# Altium footprint library SpecialisedSensor.PcbLib: 7 footprints
Each footprint in its own frame and in the unit in brackets; x right, y up, seen from the top. Pads: shape width x height; smd on the part's side, far side on the other; paste and mask are expansions set on the pad; w line width, h text height; cw(c..) or ccw(c..) is an arc to the next point about the centre after c.
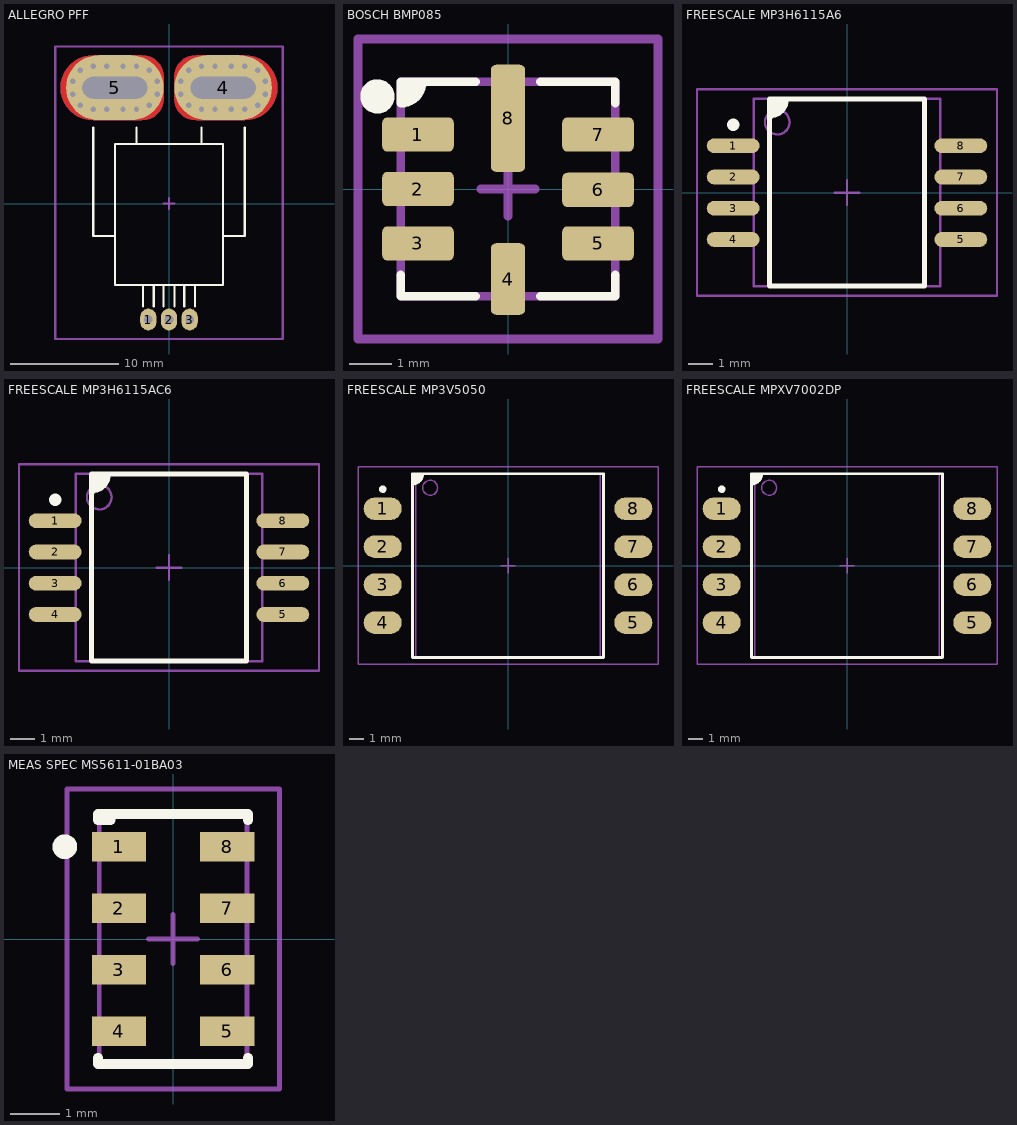
[diagram p0: the footprints below, top view; thin cyan lines are the x and y axes]

## ALLEGRO PFF [mm]
height 7
pads (5):
  oval 1.5x2 hole 0.8: 1(-1.91,-10.7) 2(0,-10.7) 3(1.91,-10.7)
  oval 9x6 hole 2 slot 6 at 0 deg: 4(5,10.7) 5(-5,10.7)
via 5.75,8.7 diameter 0.9 hole 0.5
via 4.25,8.7 diameter 0.9 hole 0.5
via 4.25,12.7 diameter 0.9 hole 0.5
via 7,12.7 diameter 0.9 hole 0.5
via 8.176,12.318 diameter 0.9 hole 0.5
via 8.902,11.318 diameter 0.9 hole 0.5
via 8.902,10.082 diameter 0.9 hole 0.5
via 8.176,9.082 diameter 0.9 hole 0.5
via 7,8.7 diameter 0.9 hole 0.5
via 3,8.7 diameter 0.9 hole 0.5
via 1.824,9.082 diameter 0.9 hole 0.5
via 1.098,10.082 diameter 0.9 hole 0.5
via 1.098,11.318 diameter 0.9 hole 0.5
via 1.824,12.318 diameter 0.9 hole 0.5
via 3,12.7 diameter 0.9 hole 0.5
via 5.75,12.7 diameter 0.9 hole 0.5
via -4.25,8.7 diameter 0.9 hole 0.5
via -5.75,8.7 diameter 0.9 hole 0.5
via -5.75,12.7 diameter 0.9 hole 0.5
via -3,12.7 diameter 0.9 hole 0.5
via -1.824,12.318 diameter 0.9 hole 0.5
via -1.098,11.318 diameter 0.9 hole 0.5
via -1.098,10.082 diameter 0.9 hole 0.5
via -1.824,9.082 diameter 0.9 hole 0.5
via -3,8.7 diameter 0.9 hole 0.5
via -7,8.7 diameter 0.9 hole 0.5
via -8.176,9.082 diameter 0.9 hole 0.5
via -8.902,10.082 diameter 0.9 hole 0.5
via -8.902,11.318 diameter 0.9 hole 0.5
via -8.176,12.318 diameter 0.9 hole 0.5
via -7,12.7 diameter 0.9 hole 0.5
via -4.25,12.7 diameter 0.9 hole 0.5
Top Layer:
  region: -7,13.709 -7.471,13.672 -7.93,13.562 -8.366,13.381 -8.769,13.135 -9.128,12.828 -9.435,12.469 -9.681,12.066 -9.862,11.63 -9.972,11.171 -10.009,10.7 -9.972,10.229 -9.862,9.77 -9.681,9.334 -9.435,8.931 -9.128,8.572 -8.769,8.265 -8.366,8.019 -7.93,7.838 -7.471,7.728 -7,7.691 -7,7.7 -2.5,7.69 -2.108,7.729 -1.731,7.843 -1.383,8.029 -1.079,8.279 -0.829,8.583 -0.643,8.931 -0.529,9.308 -0.49,9.7 -0.5,9.7 -0.49,11.7 -0.529,12.092 -0.643,12.469 -0.829,12.817 -1.079,13.121 -1.383,13.371 -1.731,13.557 -2.108,13.671 -2.5,13.71 -2.5,13.7
  region: 7,13.709 7.471,13.672 7.93,13.562 8.366,13.381 8.769,13.135 9.128,12.828 9.435,12.469 9.681,12.066 9.862,11.63 9.972,11.171 10.009,10.7 9.972,10.229 9.862,9.77 9.681,9.334 9.435,8.931 9.128,8.572 8.769,8.265 8.366,8.019 7.93,7.838 7.471,7.728 7,7.691 7,7.7 2.5,7.69 2.108,7.729 1.731,7.843 1.383,8.029 1.079,8.279 0.829,8.583 0.643,8.931 0.529,9.308 0.49,9.7 0.5,9.7 0.49,11.7 0.529,12.092 0.643,12.469 0.829,12.817 1.079,13.121 1.383,13.371 1.731,13.557 2.108,13.671 2.5,13.71 2.5,13.7
Bottom Layer:
  region: -7,13.709 -7.471,13.672 -7.93,13.562 -8.366,13.381 -8.769,13.135 -9.128,12.828 -9.435,12.469 -9.681,12.066 -9.862,11.63 -9.972,11.171 -10.009,10.7 -9.972,10.229 -9.862,9.77 -9.681,9.334 -9.435,8.931 -9.128,8.572 -8.769,8.265 -8.366,8.019 -7.93,7.838 -7.471,7.728 -7,7.691 -7,7.7 -2.5,7.69 -2.108,7.729 -1.731,7.843 -1.383,8.029 -1.079,8.279 -0.829,8.583 -0.643,8.931 -0.529,9.308 -0.49,9.7 -0.5,9.7 -0.49,11.7 -0.529,12.092 -0.643,12.469 -0.829,12.817 -1.079,13.121 -1.383,13.371 -1.731,13.557 -2.108,13.671 -2.5,13.71 -2.5,13.7
  region: 7,13.709 7.471,13.672 7.93,13.562 8.366,13.381 8.769,13.135 9.128,12.828 9.435,12.469 9.681,12.066 9.862,11.63 9.972,11.171 10.009,10.7 9.972,10.229 9.862,9.77 9.681,9.334 9.435,8.931 9.128,8.572 8.769,8.265 8.366,8.019 7.93,7.838 7.471,7.728 7,7.691 7,7.7 2.5,7.69 2.108,7.729 1.731,7.843 1.383,8.029 1.079,8.279 0.829,8.583 0.643,8.931 0.529,9.308 0.49,9.7 0.5,9.7 0.49,11.7 0.529,12.092 0.643,12.469 0.829,12.817 1.079,13.121 1.383,13.371 1.731,13.557 2.108,13.671 2.5,13.71 2.5,13.7
Top Overlay:
  lines w0.2: -7,7 -7,-3 -5,-3 ; -3,5.5 -3,7 ; -2.41,-9.5 -2.41,-7.5 ; -1.41,-9.5 -1.41,-7.5 ; -0.5,-9.5 -0.5,-7.5 ; 0.5,-9.5 0.5,-7.5 ; 1.41,-9.5 1.41,-7.5 ; 2.41,-9.5 2.41,-7.5 ; 3,5.5 3,7 ; 5,-3 7,-3 7,7 ; -5,-7.5 5,-7.5 5,5.5 -5,5.5 -5,-7.5
Mechanical 15:
  lines w0.2: -0.5,0 0.5,0 ; 0,-0.5 0,0.5 ; -10.5,-12.5 -10.5,14.5 10.5,14.5 10.5,-12.5 -10.5,-12.5
3D body: height 7, standoff -3.52, extent -7,-11.086 7,11.5

## BOSCH BMP085 [mm] "Bosch BMP085 digital pressure sensor"
height 1.2
pads (8):
  rrect30% 1.67x0.8 smd: 1(-2.1,1.27) 2(-2.1,0) 3(-2.1,-1.27) 5(2.1,-1.27) 6(2.1,-0.02) 7(2.1,1.27)
  rrect30% 0.8x1.67 smd: 4(0,-2.1)
  rrect30% 0.8x2.5 smd: 8(0,1.65)
Top Overlay:
  circle w0.4: c-3.048,2.159 r0.2
  region: -2.5,2.5 -2.032,2.5 -2.032,2.286 -2.286,2.032 -2.5,2.032
  lines w0.2: -2.5,-2 -2.5,-2.5 -0.75,-2.5 ; -2,2.5 cw(c-2.5,2.5) -2.5,2 -2.5,2.5 -0.75,2.5 ; 0.75,-2.5 2.5,-2.5 2.5,-2 ; 0.75,2.5 2.5,2.5 2.5,2
Mechanical 1:
  lines w0.2: -2.5,-2.5 -2.5,2.5 2.5,2.5 2.5,-2.5 -2.5,-2.5
Mechanical 15:
  lines w0.2: -0.635,0 0.635,0 ; 0,-0.635 0,0.635 ; -3.5,-3.5 3.5,-3.5 3.5,3.5 -3.5,3.5 -3.5,-3.5
3D body: height 1.2, standoff 0, extent -2.5,-2.5 2.5,2.5

## FREESCALE MP3H6115A6 [mm] "SOIC, 8-Leads, Body 7.6x7.6mm (max), Pitch 1.27mm, IPC Medium Density"
height 4.191
pads (8):
  oval 2.15x0.6 smd: 1(-4.625,1.905) 2(-4.625,0.635) 3(-4.625,-0.635) 4(-4.625,-1.905) 5(4.625,-1.905) 6(4.625,-0.635) 7(4.625,0.635) 8(4.625,1.905)
Top Overlay:
  circle w0.25: c-4.625,2.755 r0.125
  region: -2.465,3.796 -3.146,3.796 -3.15,3.8 -3.15,3.111 -2.973,3.111 -2.465,3.619
  lines w0.2: -3.15,3.111 ccw(c-3.15,3.796) -2.465,3.796 ; -3.15,-3.8 3.15,-3.8 3.15,3.8 -3.15,3.8 -3.15,-3.8
Mechanical 13:
  circle w0.1: c-2.835,2.86 r0.5
  lines w0.1: -3.785,-3.81 3.785,-3.81 3.785,3.81 -3.785,3.81 -3.785,-3.81
Mechanical 15:
  lines w0.1: -0.5,0 0.5,0 ; 0,-0.5 0,0.5 ; -6.096,-4.191 6.096,-4.191 6.096,4.191 -6.096,4.191 -6.096,-4.191
3D body: height 4.04, standoff -0.05, extent -5.234,-3.689 5.233,3.689

## FREESCALE MP3H6115AC6 [mm] "SOIC, 8-Leads, Body 7.6x7.6mm (max), Pitch 1.27mm, IPC Medium Density"
height 4.191
pads (8):
  oval 2.15x0.6 smd: 1(-4.625,1.905) 2(-4.625,0.635) 3(-4.625,-0.635) 4(-4.625,-1.905) 5(4.625,-1.905) 6(4.625,-0.635) 7(4.625,0.635) 8(4.625,1.905)
Top Overlay:
  circle w0.25: c-4.625,2.755 r0.125
  region: -2.465,3.796 -3.146,3.796 -3.15,3.8 -3.15,3.111 -2.973,3.111 -2.465,3.619
  lines w0.2: -3.15,3.111 ccw(c-3.15,3.796) -2.465,3.796 ; -3.15,-3.8 -3.15,3.8 3.15,3.8 3.15,-3.8 -3.15,-3.8
Mechanical 13:
  circle w0.1: c-2.835,2.86 r0.5
  lines w0.1: -3.785,-3.81 -3.785,3.81 3.785,3.81 3.785,-3.81 -3.785,-3.81
Mechanical 15:
  lines w0.1: -0.5,0 0.5,0 ; 0,-0.5 0,0.5 ; -6.096,-4.191 -6.096,4.191 6.096,4.191 6.096,-4.191 -6.096,-4.191
3D body: height 9.65, standoff 0, extent -5.229,-4.255 5.229,4.254

## FREESCALE MP3V5050 [mm] "SOP, 8-Leads, Body 12.3x12.3mm (max), Pitch 2.54mm, IPC Medium Density"
height 9.906
pads (8):
  oval 2.54x1.52 smd: 1(-8.38,3.81) 2(-8.38,1.27) 3(-8.38,-1.27) 4(-8.38,-3.81) 5(8.38,-3.81) 6(8.38,-1.27) 7(8.38,1.27) 8(8.38,3.81)
Top Overlay:
  circle w0.25: c-8.38,5.12 r0.125
  region: -5.715,6.146 -6.396,6.146 -6.4,6.15 -6.4,5.461 -6.223,5.461 -5.715,5.969
  lines w0.2: -6.4,5.461 ccw(c-6.4,6.146) -5.715,6.146 ; -6.4,-6.15 -6.4,6.15 6.4,6.15 6.4,-6.15 -6.4,-6.15
Mechanical 13:
  circle w0.1: c-5.21,5.21 r0.5
  lines w0.1: -6.16,-6.16 -6.16,6.16 6.16,6.16 6.16,-6.16 -6.16,-6.16
Mechanical 15:
  lines w0.1: -0.5,0 0.5,0 ; 0,-0.5 0,0.5 ; -10.033,-6.604 -10.033,6.604 10.033,6.604 10.033,-6.604 -10.033,-6.604
3D body: height 9.93, standoff -0.23, extent -8.781,-6.033 8.78,12.382

## FREESCALE MPXV7002DP [mm] "SOP, 8-Leads, Body 12.3x12.3mm (max), Pitch 2.54mm, IPC Medium Density"
height 9.906
pads (8):
  oval 2.54x1.52 smd: 1(-8.38,3.81) 2(-8.38,1.27) 3(-8.38,-1.27) 4(-8.38,-3.81) 5(8.38,-3.81) 6(8.38,-1.27) 7(8.38,1.27) 8(8.38,3.81)
Top Overlay:
  circle w0.25: c-8.38,5.12 r0.125
  region: -5.715,6.146 -6.396,6.146 -6.4,6.15 -6.4,5.461 -6.223,5.461 -5.715,5.969
  lines w0.2: -6.4,5.461 ccw(c-6.4,6.146) -5.715,6.146 ; -6.4,-6.15 6.4,-6.15 6.4,6.15 -6.4,6.15 -6.4,-6.15
Mechanical 13:
  circle w0.1: c-5.21,5.21 r0.5
  lines w0.1: -6.16,-6.16 6.16,-6.16 6.16,6.16 -6.16,6.16 -6.16,-6.16
Mechanical 15:
  lines w0.1: -0.5,0 0.5,0 ; 0,-0.5 0,0.5 ; -10.033,-6.604 10.033,-6.604 10.033,6.604 -10.033,6.604 -10.033,-6.604
3D body: height 9.91, standoff -0.25, extent -8.763,-6.033 8.763,12.128

## MEAS SPEC MS5611-01BA03 [mm] "LCC, 8-Pins, Body 3.0x5.1mm (max), Pitch 1.25mm, IPC Medium Density"
height 1
pads (8):
  rect 1.1x0.6 smd: 1(-1.1,1.875) 2(-1.1,0.625) 3(-1.1,-0.625) 4(-1.1,-1.875) 5(1.1,-1.875) 6(1.1,-0.625) 7(1.1,0.625) 8(1.1,1.875)
Top Overlay:
  circle w0.25: c-2.2,1.875 r0.125
  lines w0.2: -1.524,-2.413 -1.524,-2.54 1.524,-2.54 1.524,-2.413 ; -1.27,2.54 -1.27,2.413 -1.524,2.413 -1.524,2.54 1.524,2.54 1.524,2.413
Mechanical 13:
  lines w0.1: -1.513,2.5 -1.5,2.512 -1.5,-2.5 1.5,-2.5 1.5,2.5 -1.513,2.5
Mechanical 15:
  lines w0.1: -0.5,0 0.5,0 ; 0,-0.5 0,0.5 ; -2.159,-3.048 2.159,-3.048 2.159,3.048 -2.159,3.048 -2.159,-3.048
3D body: height 1, standoff 0, extent -1.5,-2.5 1.5,2.5